# Altium schematic symbol library MCHV05WAJ0225T5E.SchLib: 1 symbol
Pins are listed as number, name and electrical type; pins without a type are passive.

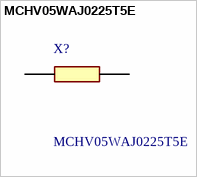
[diagram p0: symbol MCHV05WAJ0225T5E]

## MCHV05WAJ0225T5E
designator X?
SMD Chip Resistor, 2.2 Mohm, +/- 5%, 100 mW, 0805 [2012 Metric], Thick Film, High Voltage; Manufacturer_Name: Multicomp Pro; Geometry.Height: 0.65mm; Farnell Part Number: *; Farnell Price/Stock: *; Manufacturer_Part_Number: MCHV05WAJ0225T5E; Datasheet Link: *
footprint RESC2013X65N
pins: 1, 2